# EAGLE library part SPARKFUNLIPOFUELGAUGE (library Unclear)
Sparkfun LIPO Fuel Gauge Breakout
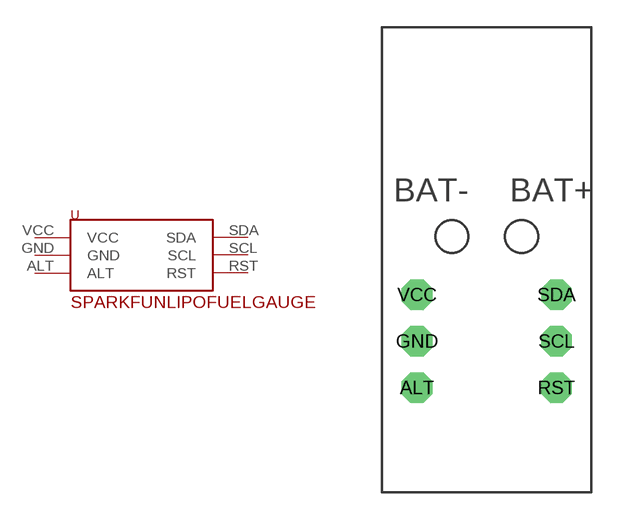
[diagram p4: symbol with the pads of SPARKFUNLIPOFUELGAUGE; footprint SPARKFUNLIPOFUELGAUGE]

Designator prefix -

## SPARKFUNLIPOFUELGAUGE (UNIT_PRICE: 8.51; VENDOR_ID: Cool Components; VENDOR_SKU: 1523; VZ_SMD_UNIT_PRICE: 6.78; VZ_SMD_VARIANT: MAX17048)  [SPARKFUNLIPOFUELGAUGE]
ALT  ALT
GND  GND
RST  RST
SCL  SCL
SDA  SDA
VCC  VCC

## Footprint SPARKFUNLIPOFUELGAUGE (pad centres in mm)
Sparkfun LIPO Fuel Gauge Breakout
drill 1 pad 1.676 octagon: ALT 1.905,5.715; GND 1.905,8.255; RST 9.525,5.715; SCL 9.525,8.255; SDA 9.525,10.795; VCC 1.905,10.795